# EAGLE library part A5191HRTLG-XTD (library On Semiconductor)
HART Modem
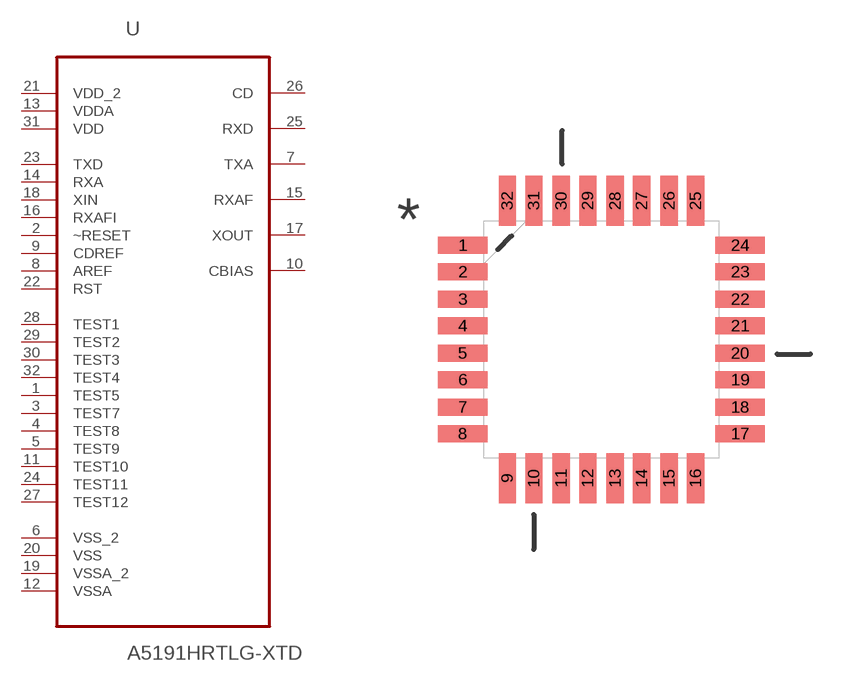
[diagram p1: symbol with the pads of QFP80P900X900X160-32N; footprint QFP80P900X900X160-32N]

Designator prefix U

## A5191HRTLG-XTD (MPN: A5191HRTLG-XTD; OC_FARNELL: -; OC_NEWARK: 03P1166; PACKAGE: LQFP-32; SUPPLIER: ON SEMICONDUCTOR)  [QFP80P900X900X160-32N]
1  TEST5  in
2  ~RESET  in
3  TEST7  in
4  TEST8  in
5  TEST9  in
6  VSS_2  pas
7  TXA  out
8  AREF  in
9  CDREF  in
10  CBIAS  out
11  TEST10  in
12  VSSA  pas
13  VDDA  pwr
14  RXA  in
15  RXAF  out
16  RXAFI  in
17  XOUT  out
18  XIN  in
19  VSSA_2  pas
20  VSS  pas
21  VDD_2  pwr
22  RST  in
23  TXD  in
24  TEST11  nc
25  RXD  out
26  CD  out
27  TEST12  nc
28  TEST1  in
29  TEST2  nc
30  TEST3  nc
31  VDD  pwr
32  TEST4  nc

## Footprint QFP80P900X900X160-32N (pad centres in mm)
smd 1.473 x 0.508: 1 -4.115,2.794; 2 -4.115,2.007; 3 -4.115,1.194; 4 -4.115,0.406; 5 -4.115,-0.406; 6 -4.115,-1.194; 7 -4.115,-2.007; 8 -4.115,-2.794; 17 4.115,-2.794; 18 4.115,-2.007; 19 4.115,-1.194; 20 4.115,-0.406; 21 4.115,0.406; 22 4.115,1.194; 23 4.115,2.007; 24 4.115,2.794
smd 0.508 x 1.473: 9 -2.794,-4.115; 10 -2.007,-4.115; 11 -1.194,-4.115; 12 -0.406,-4.115; 13 0.406,-4.115; 14 1.194,-4.115; 15 2.007,-4.115; 16 2.794,-4.115; 25 2.794,4.115; 26 2.007,4.115; 27 1.194,4.115; 28 0.406,4.115; 29 -0.406,4.115; 30 -1.194,4.115; 31 -2.007,4.115; 32 -2.794,4.115